# EAGLE library part PTDA_1.5_12-PH_3.5 (library OpenMotics)
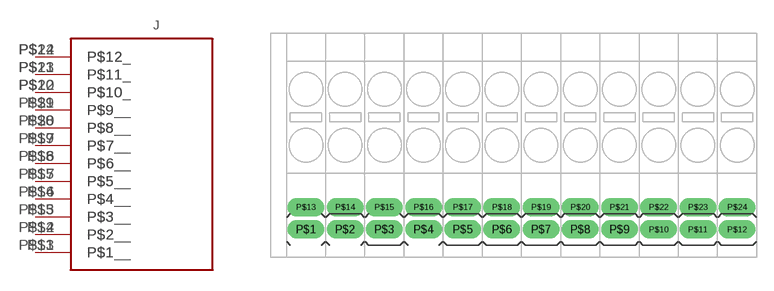
[diagram p20: symbol with the pads of PTDA_1.5_X-PH_3.5; footprint PTDA_1.5_X-PH_3.5]

Designator prefix J

## PTDA_1.5_12-PH_3.5  [PTDA_1.5_X-PH_3.5]
P$1  P$1
P$2  P$2
P$3  P$3
P$4  P$4
P$5  P$5
P$6  P$6
P$7  P$7
P$8  P$8
P$9  P$9
P$10  P$10
P$11  P$11
P$12  P$12
P$13  P$1__
P$14  P$2__
P$15  P$3__
P$16  P$4__
P$17  P$5__
P$18  P$6__
P$19  P$7__
P$20  P$8__
P$21  P$9__
P$22  P$10_
P$23  P$11_
P$24  P$12_

## Footprint PTDA_1.5_X-PH_3.5 (pad centres in mm)
drill 1.1 pad 1.422 long: P$1 0,0; P$2 3.5,0; P$3 7,0; P$4 10.5,0; P$5 14,0; P$6 17.5,0; P$7 21,0; P$8 24.5,0; P$9 28,0; P$10 31.5,0; P$11 35,0; P$12 38.5,0; P$13 0,2; P$14 3.5,2; P$15 7,2; P$16 10.5,2; P$17 14,2; P$18 17.5,2; P$19 21,2; P$20 24.5,2; P$21 28,2; P$22 31.5,2; P$23 35,2; P$24 38.5,2